# EAGLE library part DRV8825 (library LARS_409_MC3)
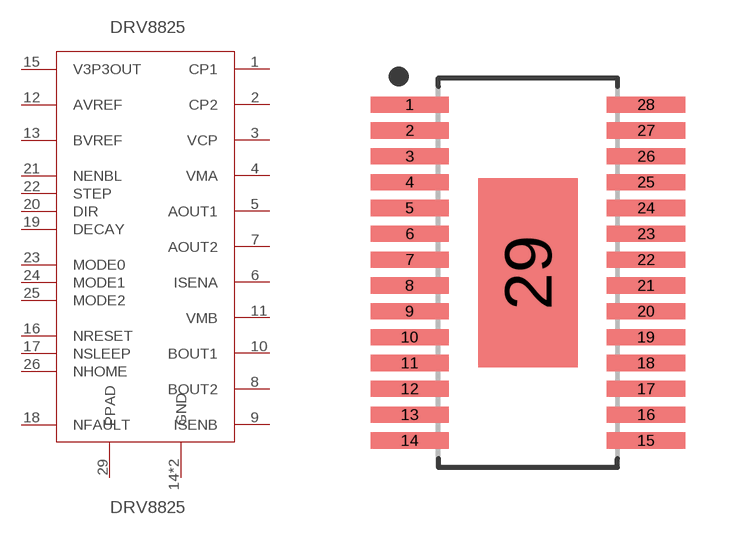
[diagram p26: symbol with the pads of SOP-29T275X475N; footprint SOP-29T275X475N]

Designator prefix DRV8825

## DRV8825  [SOP-29T275X475N]
1  CP1
2  CP2
3  VCP
4  VMA
5  AOUT1
6  ISENA
7  AOUT2
8  BOUT2
9  ISENB
10  BOUT1
11  VMB
12  AVREF
13  BVREF
14  GND
15  V3P3OUT
16  NRESET
17  NSLEEP
18  NFAULT
19  DECAY
20  DIR
21  NENBL
22  STEP
23  MODE0
24  MODE1
25  MODE2
26  NHOME
28  GND
29  PPAD

## Footprint SOP-29T275X475N (pad centres in mm)
28-SOP, 0.65 mm pitch, 6.40 mm span, 9.70 X 4.40 X 1.20 mm body, 4.75 X 2.75 mm thermal pad 28-pin SOP package with 0.65 mm pitch, 6.40 mm span with body size 9.70 X 4.40 X 1.20 mm and thermal pad size 4.75 X 2.75 mm
smd 1.968 x 0.407: 1 -2.973,4.225; 2 -2.973,3.575; 3 -2.973,2.925; 4 -2.973,2.275; 5 -2.973,1.625; 6 -2.973,0.975; 7 -2.973,0.325; 8 -2.973,-0.325; 9 -2.973,-0.975; 10 -2.973,-1.625; 11 -2.973,-2.275; 12 -2.973,-2.925; 13 -2.973,-3.575; 14 -2.973,-4.225; 15 2.973,-4.225; 16 2.973,-3.575; 17 2.973,-2.925; 18 2.973,-2.275; 19 2.973,-1.625; 20 2.973,-0.975; 21 2.973,-0.325; 22 2.973,0.325; 23 2.973,0.975; 24 2.973,1.625; 25 2.973,2.275; 26 2.973,2.925; 27 2.973,3.575; 28 2.973,4.225
smd 2.5 x 4.75: 29 0,0